# Altium footprint library ES_Pcb.PcbLib: 383 footprints (part 1 of 24)
Each footprint in its own frame and in the unit in brackets; x right, y up, seen from the top. Pads: shape width x height; smd on the part's side, far side on the other; paste and mask are expansions set on the pad; w line width, h text height; cw(c..) or ccw(c..) is an arc to the next point about the centre after c.
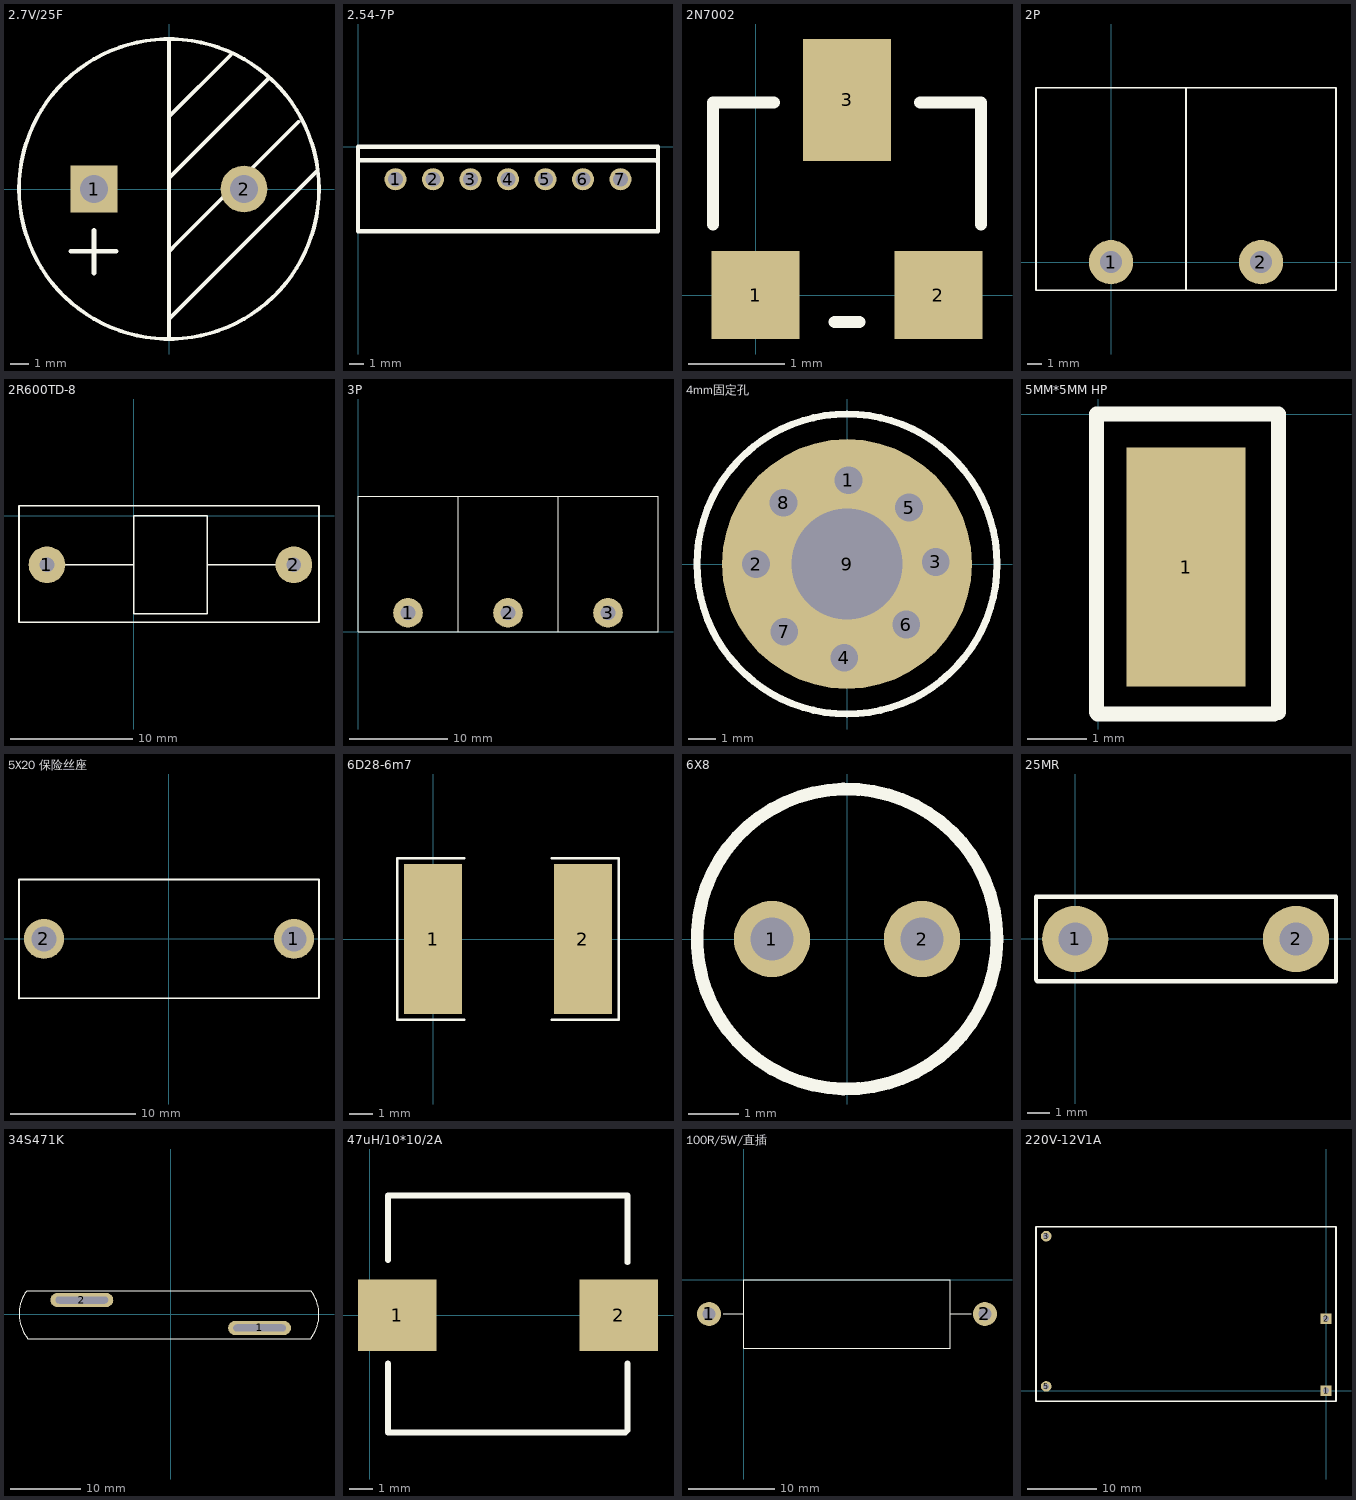
[diagram p0: the footprints below, top view; thin cyan lines are the x and y axes]

## 2.7V/25F [mm]
pads (2):
  rect 2.5x2.5 hole 1.5: 1(-4,0)
  round 2.5 hole 1.5: 2(4,0)
Top Overlay:
  circle w0.2: c0,0 r8
  lines w0.2: 0,-8 0,8 ; 0,0.584 5.334,5.918 ; 0,3.861 3.277,7.137 ; 0.025,-3.302 0.432,-2.896 6.909,3.581 ; 0.051,-6.883 7.899,0.965
  lines w0.25: -5.232,-3.327 -2.819,-3.327 ; -4,-4.496 -4,-2.21

## 2.54-7P [mm]
pads (7):
  round 1.5 hole 1: 1(2.54,-2.2) 2(5.08,-2.2) 3(7.62,-2.2) 4(10.16,-2.2) 5(12.7,-2.2) 6(15.24,-2.2) 7(17.78,-2.2)
Top Overlay:
  lines w0.3: 0,-0.914 20.193,-0.914 20.269,-0.991 ; 0,-5.72 0,0 20.32,0 20.32,-5.72 0,-5.72

## 2N7002 [mil]
pads (3):
  rect 36x36 smd: 1(0,0) 2(75,0)
  rect 36x50 smd: 3(37.5,80)
Top Overlay:
  lines w5: -17.5,29 -17.5,79 7.5,79 ; 32.5,-11 42.5,-11 ; 67.5,79 92.5,79 92.5,29

## 2P [mm]
pads (2):
  round 3 hole 1.5: 1(0,0) 2(10.16,0)
Top Overlay:
  lines w0.127: 5.08,-1.905 5.08,11.815 ; -5.08,-1.905 -5.08,11.815 15.236,11.815 15.24,11.811 15.24,-1.905 -5.08,-1.905

## 2R600TD-8 [mm]
pads (2):
  round 3 hole 1.2: 1(-7.087,-4) 2(13.081,-4)
Top Overlay:
  lines w0.127: -9.373,-8.687 -9.373,0.813 ; -9.347,-8.712 15.138,-8.712 15.138,0.838 -7.087,0.838 -9.347,0.838 -9.373,0.813 ; -9.347,0.787 -9.373,0.813 ; -6,-4 0,-4 ; 6,-4 12,-4 ; 0,-8 6,-8 6,0 0,0 0,-8

## 3P [mm]
pads (3):
  round 3 hole 1.5: 1(5.08,1.905) 2(15.24,1.905) 3(25.4,1.905)
Top Overlay:
  lines w0.127: 10.16,0 10.16,13.72 ; 20.32,0 20.32,13.716 ; 0,0 30.48,0 30.48,13.72 0,13.72 0,0

## 4mm固定孔 [mm]
pads (9):
  oval 1x2 hole 1: 1(0.051,3.023) 2(-3.277,0) 3(3.2,0.076) 4(-0.102,-3.378) 5(2.235,2.032) 6(2.134,-2.184) 7(-2.261,-2.438) 8(-2.286,2.21)
  round 9 hole 4: 9(0,0)
Top Overlay:
  circle w0.254: c0,0 r5.406

## 5MM*5MM HP [mm]
pads (1):
  rect 2x4 smd: 1(1.473,-2.565)
Top Overlay:
  lines w0.254: -0.025,-5 -0.025,0 ; -0.008,-5.029 2.946,-5.029 ; 0,0 3,0 ; 3.023,-5 3.023,0

## 5X20 保险丝座 [mm]
pads (2):
  round 3.2 hole 2: 1(10,0) 2(-10,0)
Top Overlay:
  lines w0.127: -12,4.725 -12,-4.775 12,-4.75 12,4.75 -12,4.75

## 6D28-6m7 [mm]
pads (2):
  rect 2.5x6.5 smd: 1(0,0) 2(6.5,0)
Top Overlay:
  lines w0.127: 1.337,-3.5 -1.55,-3.5 -1.55,3.5 1.337,3.5 ; 5.15,-3.5 8.05,-3.5 8.05,3.5 5.15,3.5

## 6X8 [mil]
pads (2):
  round 60 hole 34: 1(-59.06,0) 2(59.06,0)
Top Overlay:
  circle w10: c0,0 r118.11

## 25MR [mm]
pads (2):
  round 3 hole 1.5: 1(0,0) 2(10,0)
Top Overlay:
  lines w0.2: -1.778,-1.854 -1.727,-1.905 11.811,-1.905 11.811,1.905 -1.778,1.905 -1.778,-1.854

## 34S471K [mm]
pads (2):
  oval 9x2 hole 1 slot 7.5 at 0 deg: 1(12.7,-2) 2(-12.7,2)
Top Overlay:
  lines w0.127: -20.587,3.285 ccw(c-16.158,-0.002) -20.396,-3.531 ; -20.574,3.29 20.025,3.29 ; -20.345,-3.544 19.975,-3.544 ; 19.994,-3.508 ccw(c15.679,-0.073) 20.056,3.283

## 47uH/10*10/2A [mm]
pads (2):
  rect 3.4x3.1 smd: 1(1.194,0) 2(10.82,0)
Top Overlay:
  lines w0.254: 0.8,-2.1 0.8,-3 0.8,-5.1 11.1,-5.1 11.2,-5 11.2,-2.1 ; 0.8,2.4 0.8,5.2 11.2,5.2 11.2,2.3

## 100R/5W/直插 [mm]
pads (2):
  round 2.8 hole 1.5: 1(-4,-4) 2(28,-4)
Top Overlay:
  lines w0.1: -2.362,-4 0,-4 ; 24.054,-4 26.416,-4 ; 0,-8 24,-8 24,0 0,0 0,-8

## 220V-12V1A [mil]
pads (4):
  rect 60x60 hole 34.02: 1(0,0) 2(0,405.51)
  round 60 hole 34.02: 3(-1579.53,871.65) 5(-1579.53,23.62)
Top Overlay:
  lines w10: -1636.83,-59.91 56.09,-59.91 56.09,924.34 -1636.83,924.34 -1636.83,-59.91